# EAGLE library part ADG704 (library ic-AD)
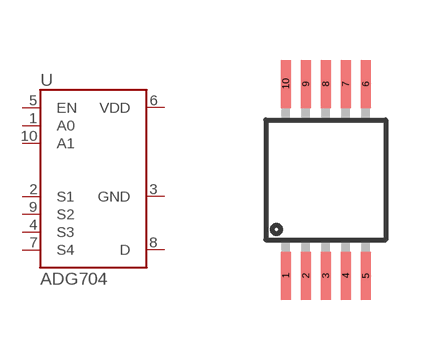
[diagram p10: symbol with the pads of MSOP10; footprint MSOP10]

Designator prefix U

## ADG704  [MSOP10]
1  A0
2  S1
3  GND
4  S3
5  EN
6  VDD
7  S4
8  D
9  S2
10  A1

## Footprint MSOP10 (pad centres in mm)
smd 0.25 x 1.2: 1 -1,-2.4; 2 -0.5,-2.4; 3 0,-2.4; 4 0.5,-2.4; 5 1,-2.4; 6 1,2.4; 7 0.5,2.4; 8 0,2.4; 9 -0.5,2.4; 10 -1,2.4